# EAGLE library part EP1C6 (library launchpad_bp)
The Cyclone® field programmable gate array family is based on a 1.5-V, 0.13-?m, all-layer copper SRAM process, with densities up to 20,060 logic elements (LEs) and up to 288 Kbits of RAM. With features like phase-locked loops (PLLs) for clocking and a dedicated double data rate (DDR) interface to meet DDR SDRAM and fast cycle RAM (FCRAM) memory requirements, Cyclone devices are a cost-effective solution for data-path applications. Cyclone devices support various I/O standards, including LVDS at data rates up to 640 megabits per second (Mbps), and 66- and 33-MHz, 64- and 32-bit peripheral component interconnect (PCI), for interfacing with and supporting ASSP and ASIC devices. Altera also offers new low-cost serial configuration devices to configure Cyclone devices.
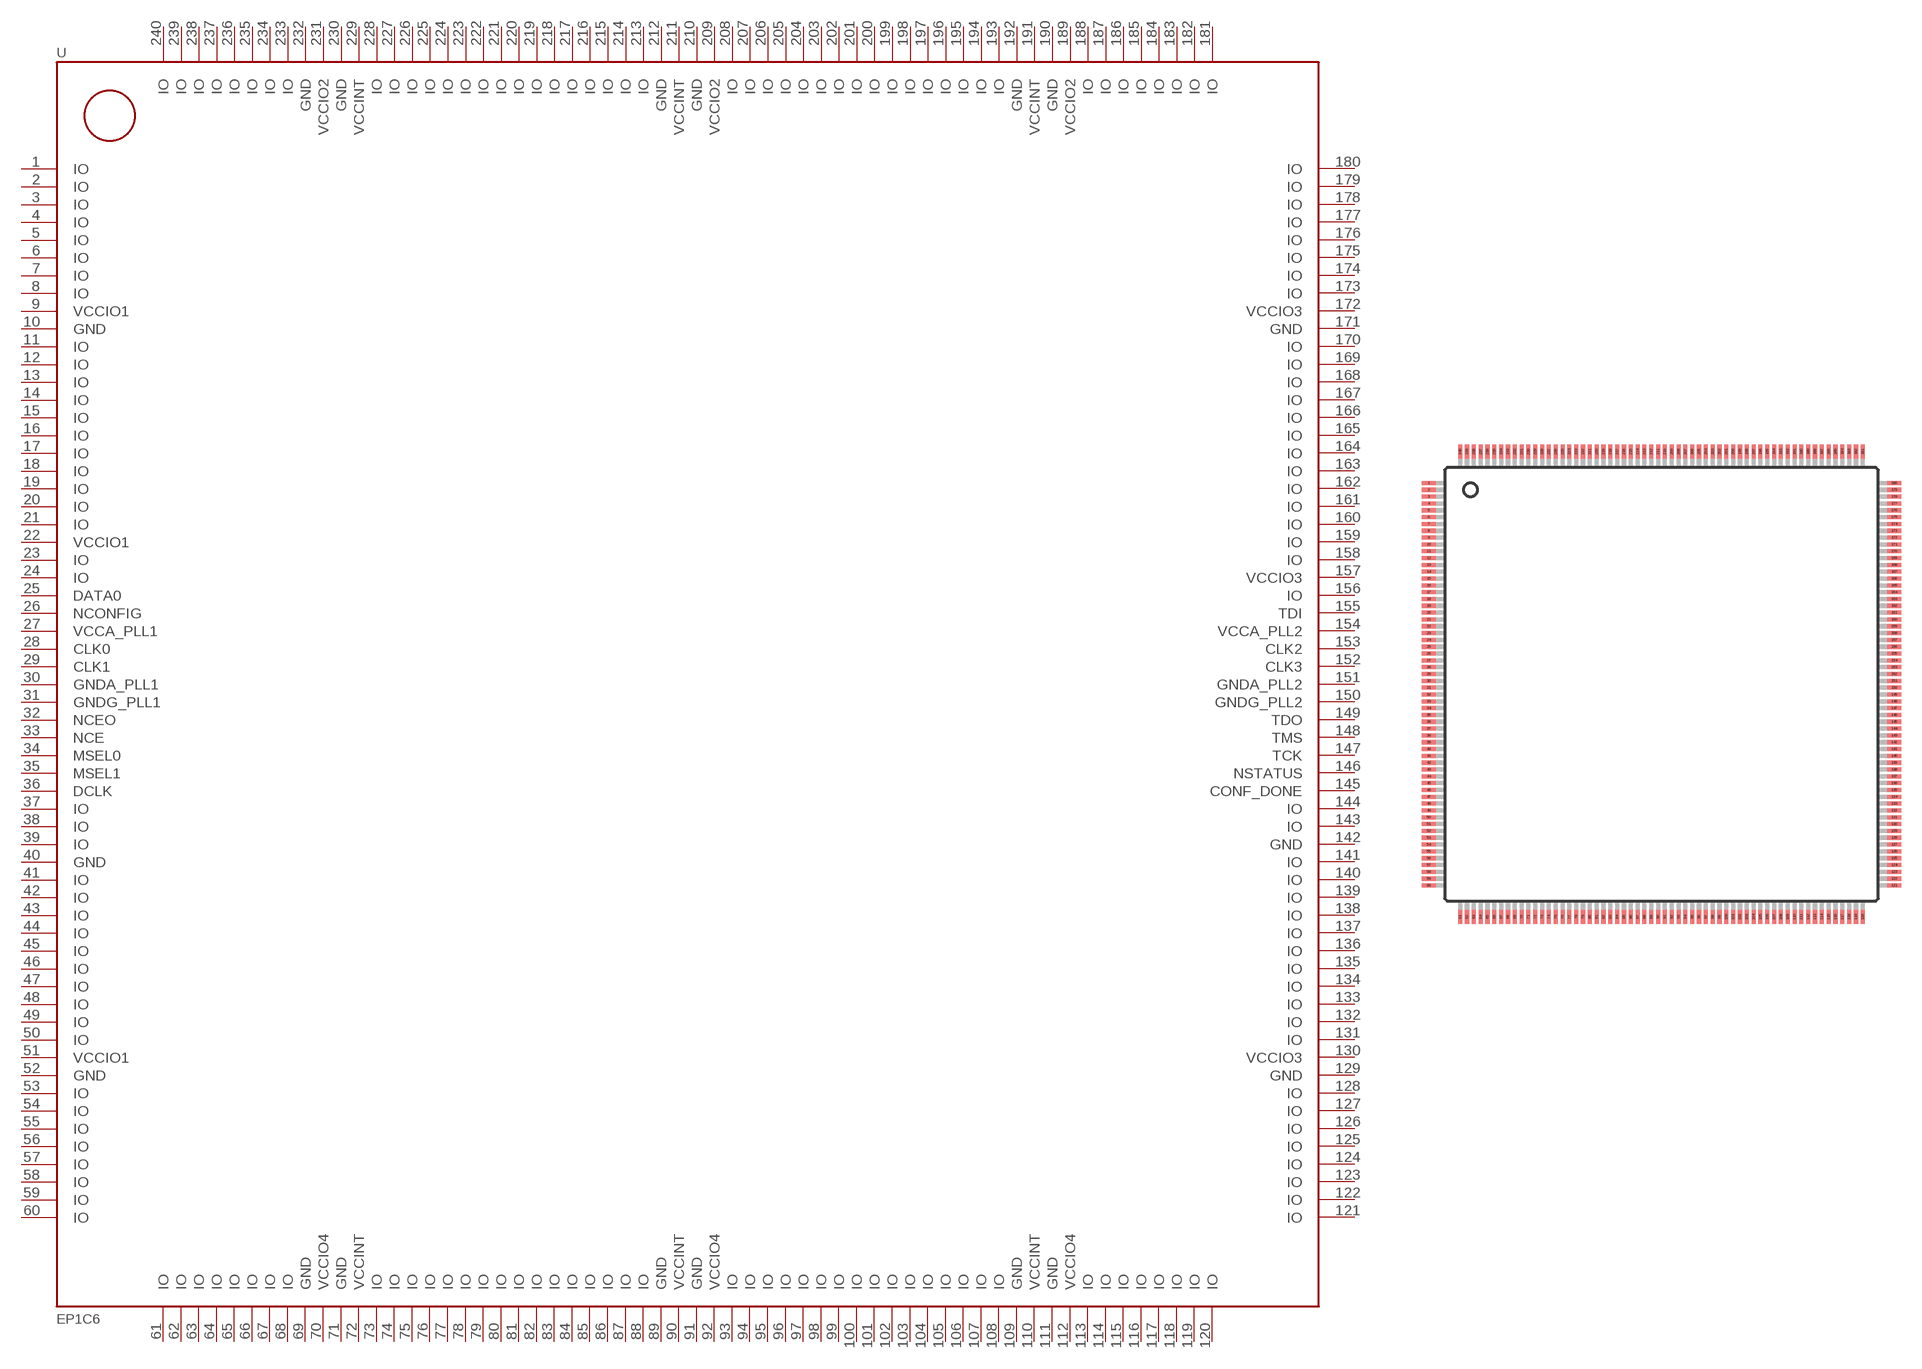
[diagram p1: symbol with the pads of PQFP240; footprint PQFP240]

Designator prefix -

## EP1C6  [PQFP240]
1  IO
2  IO
3  IO
4  IO
5  IO
6  IO
7  IO
8  IO
9  VCCIO1  pwr
10  GND  pwr
11  IO
12  IO
13  IO
14  IO
15  IO
16  IO
17  IO
18  IO
19  IO
20  IO
21  IO
22  VCCIO1  pwr
23  IO
24  IO
25  DATA0  in
26  NCONFIG  in
27  VCCA_PLL1  pwr
28  CLK0  in
29  CLK1  in
30  GNDA_PLL1  pwr
31  GNDG_PLL1  pwr
32  NCEO  in
33  NCE  in
34  MSEL0  in
35  MSEL1  in
36  DCLK
37  IO
38  IO
39  IO
40  GND  pwr
41  IO
42  IO
43  IO
44  IO
45  IO
46  IO
47  IO
48  IO
49  IO
50  IO
51  VCCIO1  pwr
52  GND  pwr
53  IO
54  IO
55  IO
56  IO
57  IO
58  IO
59  IO
60  IO
61  IO
62  IO
63  IO
64  IO
65  IO
66  IO
67  IO
68  IO
69  GND  pwr
70  VCCIO4  pwr
71  GND  pwr
72  VCCINT  pwr
73  IO
74  IO
75  IO
76  IO
77  IO
78  IO
79  IO
80  IO
81  IO
82  IO
83  IO
84  IO
85  IO
86  IO
87  IO
88  IO
89  GND  pwr
90  VCCINT  pwr
91  GND  pwr
92  VCCIO4  pwr
93  IO
94  IO
95  IO
96  IO
97  IO
98  IO
99  IO
100  IO
101  IO
102  IO
103  IO
104  IO
105  IO
106  IO
107  IO
108  IO
109  GND  pwr
110  VCCINT  pwr
111  GND  pwr
112  VCCIO4  pwr
113  IO
114  IO
115  IO
116  IO
117  IO
118  IO
119  IO
120  IO
121  IO
122  IO
123  IO
124  IO
125  IO
126  IO
127  IO
128  IO
129  GND  pwr
130  VCCIO3  pwr
131  IO
132  IO
133  IO
134  IO
135  IO
136  IO
137  IO
138  IO
139  IO
140  IO
141  IO
142  GND  pwr
143  IO
144  IO
145  CONF_DONE
146  NSTATUS
147  TCK  in
148  TMS  in
149  TDO  out
150  GNDG_PLL2  pwr
151  GNDA_PLL2  pwr
152  CLK3  in
153  CLK2  in
154  VCCA_PLL2  pwr
155  TDI  in
156  IO
157  VCCIO3  pwr
158  IO
159  IO
160  IO
161  IO
162  IO
163  IO
164  IO
165  IO
166  IO
167  IO
168  IO
169  IO
170  IO
171  GND  pwr
172  VCCIO3  pwr
173  IO
174  IO
175  IO
176  IO
177  IO
178  IO
179  IO
180  IO
181  IO
182  IO
183  IO
184  IO
185  IO
186  IO
187  IO
188  IO
189  VCCIO2  pwr
190  GND  pwr
191  VCCINT  pwr
192  GND  pwr
193  IO
194  IO
195  IO
196  IO
197  IO
198  IO
199  IO
200  IO
201  IO
202  IO
203  IO
204  IO
205  IO
206  IO
207  IO
208  IO
209  VCCIO2  pwr
210  GND  pwr
211  VCCINT  pwr
212  GND  pwr
213  IO
214  IO
215  IO
216  IO
217  IO
218  IO
219  IO
220  IO
221  IO
222  IO
223  IO
224  IO
225  IO
226  IO
227  IO
228  IO
229  VCCINT
230  GND  pwr
231  VCCIO2  pwr
232  GND  pwr
233  IO
234  IO
235  IO
236  IO
237  IO
238  IO
239  IO
240  IO

## Footprint PQFP240 (pad centres in mm)
PQFP240 Auto generated by make-symbol-device-package-bsdl.ulp Rev. 18 Source: www.altera.com .. cyc2_cii51015.pdf
smd 1 x 0.3: 1 -17.05,14.75; 2 -17.05,14.25; 3 -17.05,13.75; 4 -17.05,13.25; 5 -17.05,12.75; 6 -17.05,12.25; 7 -17.05,11.75; 8 -17.05,11.25; 9 -17.05,10.75; 10 -17.05,10.25; 11 -17.05,9.75; 12 -17.05,9.25; 13 -17.05,8.75; 14 -17.05,8.25; 15 -17.05,7.75; 16 -17.05,7.25; 17 -17.05,6.75; 18 -17.05,6.25; 19 -17.05,5.75; 20 -17.05,5.25; 21 -17.05,4.75; 22 -17.05,4.25; 23 -17.05,3.75; 24 -17.05,3.25; 25 -17.05,2.75; 26 -17.05,2.25; 27 -17.05,1.75; 28 -17.05,1.25; 29 -17.05,0.75; 30 -17.05,0.25; 31 -17.05,-0.25; 32 -17.05,-0.75; 33 -17.05,-1.25; 34 -17.05,-1.75; 35 -17.05,-2.25; 36 -17.05,-2.75; 37 -17.05,-3.25; 38 -17.05,-3.75; 39 -17.05,-4.25; 40 -17.05,-4.75; 41 -17.05,-5.25; 42 -17.05,-5.75; 43 -17.05,-6.25; 44 -17.05,-6.75; 45 -17.05,-7.25; 46 -17.05,-7.75; 47 -17.05,-8.25; 48 -17.05,-8.75; 49 -17.05,-9.25; 50 -17.05,-9.75; 51 -17.05,-10.25; 52 -17.05,-10.75; 53 -17.05,-11.25; 54 -17.05,-11.75; 55 -17.05,-12.25; 56 -17.05,-12.75; 57 -17.05,-13.25; 58 -17.05,-13.75; 59 -17.05,-14.25; 60 -17.05,-14.75; 121 17.05,-14.75; 122 17.05,-14.25; 123 17.05,-13.75; 124 17.05,-13.25; 125 17.05,-12.75; 126 17.05,-12.25; 127 17.05,-11.75; 128 17.05,-11.25; 129 17.05,-10.75; 130 17.05,-10.25; 131 17.05,-9.75; 132 17.05,-9.25; 133 17.05,-8.75; 134 17.05,-8.25; 135 17.05,-7.75; 136 17.05,-7.25; 137 17.05,-6.75; 138 17.05,-6.25; 139 17.05,-5.75; 140 17.05,-5.25; 141 17.05,-4.75; 142 17.05,-4.25; 143 17.05,-3.75; 144 17.05,-3.25; 145 17.05,-2.75; 146 17.05,-2.25; 147 17.05,-1.75; 148 17.05,-1.25; 149 17.05,-0.75; 150 17.05,-0.25; 151 17.05,0.25; 152 17.05,0.75; 153 17.05,1.25; 154 17.05,1.75; 155 17.05,2.25; 156 17.05,2.75; 157 17.05,3.25; 158 17.05,3.75; 159 17.05,4.25; 160 17.05,4.75; 161 17.05,5.25; 162 17.05,5.75; 163 17.05,6.25; 164 17.05,6.75; 165 17.05,7.25; 166 17.05,7.75; 167 17.05,8.25; 168 17.05,8.75; 169 17.05,9.25; 170 17.05,9.75; 171 17.05,10.25; 172 17.05,10.75; 173 17.05,11.25; 174 17.05,11.75; 175 17.05,12.25; 176 17.05,12.75; 177 17.05,13.25; 178 17.05,13.75; 179 17.05,14.25; 180 17.05,14.75
smd 0.3 x 1: 61 -14.75,-17.05; 62 -14.25,-17.05; 63 -13.75,-17.05; 64 -13.25,-17.05; 65 -12.75,-17.05; 66 -12.25,-17.05; 67 -11.75,-17.05; 68 -11.25,-17.05; 69 -10.75,-17.05; 70 -10.25,-17.05; 71 -9.75,-17.05; 72 -9.25,-17.05; 73 -8.75,-17.05; 74 -8.25,-17.05; 75 -7.75,-17.05; 76 -7.25,-17.05; 77 -6.75,-17.05; 78 -6.25,-17.05; 79 -5.75,-17.05; 80 -5.25,-17.05; 81 -4.75,-17.05; 82 -4.25,-17.05; 83 -3.75,-17.05; 84 -3.25,-17.05; 85 -2.75,-17.05; 86 -2.25,-17.05; 87 -1.75,-17.05; 88 -1.25,-17.05; 89 -0.75,-17.05; 90 -0.25,-17.05; 91 0.25,-17.05; 92 0.75,-17.05; 93 1.25,-17.05; 94 1.75,-17.05; 95 2.25,-17.05; 96 2.75,-17.05; 97 3.25,-17.05; 98 3.75,-17.05; 99 4.25,-17.05; 100 4.75,-17.05; 101 5.25,-17.05; 102 5.75,-17.05; 103 6.25,-17.05; 104 6.75,-17.05; 105 7.25,-17.05; 106 7.75,-17.05; 107 8.25,-17.05; 108 8.75,-17.05; 109 9.25,-17.05; 110 9.75,-17.05; 111 10.25,-17.05; 112 10.75,-17.05; 113 11.25,-17.05; 114 11.75,-17.05; 115 12.25,-17.05; 116 12.75,-17.05; 117 13.25,-17.05; 118 13.75,-17.05; 119 14.25,-17.05; 120 14.75,-17.05; 181 14.75,17.05; 182 14.25,17.05; 183 13.75,17.05; 184 13.25,17.05; 185 12.75,17.05; 186 12.25,17.05; 187 11.75,17.05; 188 11.25,17.05; 189 10.75,17.05; 190 10.25,17.05; 191 9.75,17.05; 192 9.25,17.05; 193 8.75,17.05; 194 8.25,17.05; 195 7.75,17.05; 196 7.25,17.05; 197 6.75,17.05; 198 6.25,17.05; 199 5.75,17.05; 200 5.25,17.05; 201 4.75,17.05; 202 4.25,17.05; 203 3.75,17.05; 204 3.25,17.05; 205 2.75,17.05; 206 2.25,17.05; 207 1.75,17.05; 208 1.25,17.05; 209 0.75,17.05; 210 0.25,17.05; 211 -0.25,17.05; 212 -0.75,17.05; 213 -1.25,17.05; 214 -1.75,17.05; 215 -2.25,17.05; 216 -2.75,17.05; 217 -3.25,17.05; 218 -3.75,17.05; 219 -4.25,17.05; 220 -4.75,17.05; 221 -5.25,17.05; 222 -5.75,17.05; 223 -6.25,17.05; 224 -6.75,17.05; 225 -7.25,17.05; 226 -7.75,17.05; 227 -8.25,17.05; 228 -8.75,17.05; 229 -9.25,17.05; 230 -9.75,17.05; 231 -10.25,17.05; 232 -10.75,17.05; 233 -11.25,17.05; 234 -11.75,17.05; 235 -12.25,17.05; 236 -12.75,17.05; 237 -13.25,17.05; 238 -13.75,17.05; 239 -14.25,17.05; 240 -14.75,17.05